# Altium footprint library TO-251(I-PAK).PcbLib: 1 footprints
Each footprint in its own frame and in the unit in brackets; x right, y up, seen from the top. Pads: shape width x height; smd on the part's side, far side on the other; paste and mask are expansions set on the pad; w line width, h text height; cw(c..) or ccw(c..) is an arc to the next point about the centre after c.
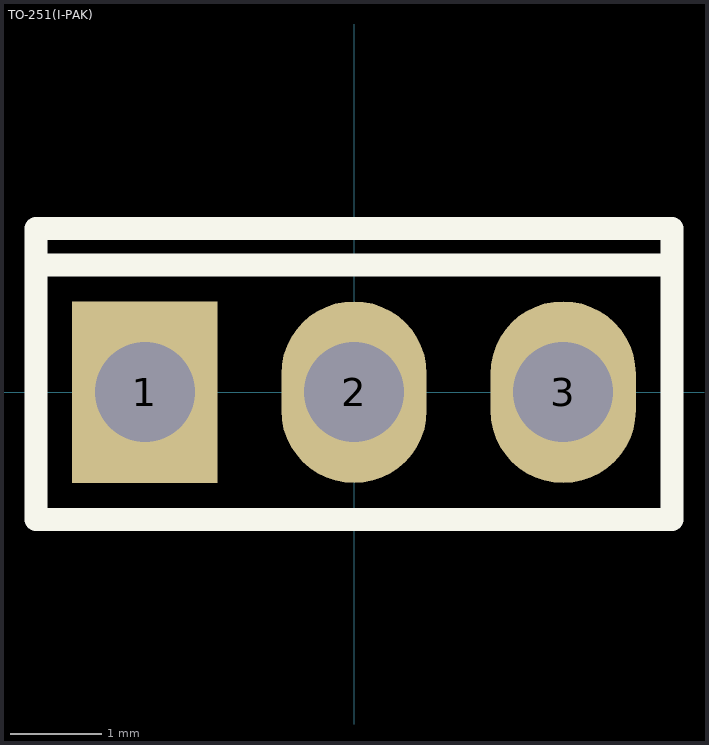
[diagram p0: the footprint, top view; thin cyan lines are the x and y axes]

## TO-251(I-PAK) [mm]
pads (3):
  rect 1.6x2 hole 1.1: 1(-2.3,0)
  oval 1.6x2 hole 1.1: 2(0,0) 3(2.3,0)
Top Overlay:
  lines w0.254: -3.5,1.4 3.5,1.4 ; -3.5,1.4 -3.5,-1.4 3.5,-1.4 3.5,1.4 ; -3.5,1.4 -3.5,1.8 3.5,1.8 3.5,1.4
3D body: height 9.46, standoff -3.92, extent -3.3,-0.9 3.3,1.4